# Altium schematic symbol library KLORlib.SchLib: 11 symbols
Pins are listed as number, name and electrical type; pins without a type are passive.

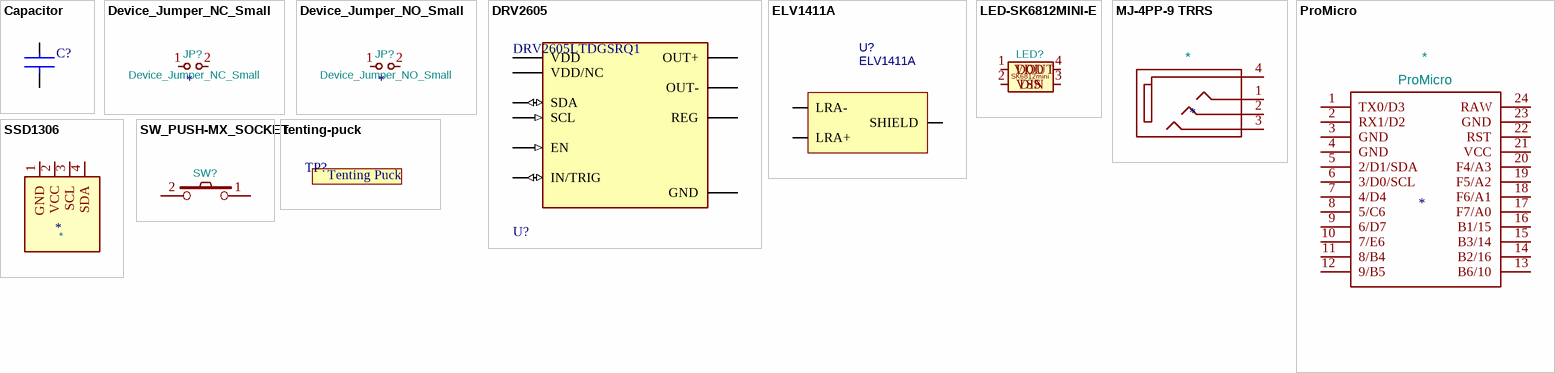
[diagram p0: symbols Capacitor to tenting-puck]

## Capacitor
designator C?
footprint FP-C0402-BB-MFG
footprint FP-C0402-BB-IPC_C
footprint FP-C0402-BB-IPC_B
footprint FP-C0402-BB-IPC_A
pins: 1, 2

## Device_Jumper_NC_Small
designator JP?  value Device_Jumper_NC_Small
ki_fp_filters: SolderJumper*Bridged*
pins: 1, 2

## Device_Jumper_NO_Small
designator JP?  value Device_Jumper_NO_Small
ki_fp_filters: SolderJumper*Open*
footprint SolderJumper-2_P1.3mm_Open_TrianglePad1.0x1.5mm
pins: 1, 2

## DRV2605
designator U?, comment DRV2605LTDGSRQ1
IC MOTOR DRIVER 2V-5.2V 10VSSOP; Manufacturer: TI; Manufacturer Part Number: DRV2605LDGST; Logic Function: AND GATE; Min Supply Voltage: 2V; Max Supply Voltage: 5.2V; Quiescent Current: 500uA; Interface: I2C; Min Operating Temperature: -40°C; RoHS Compliant: Yes; Max Operating Temperature: 105°C; Case/Package: VSSOP; REACH SVHC: No SVHC; Packaging: Cut Tape; Number of Pins: 10; Mount: Surface Mount; Lead Free: Lead Free; Supplier Part Number: C425927; Supplier: LCSC
footprint FP-DGS0010A-MFG
footprint FP-DGS0010A-IPC_A
footprint FP-DGS0010A-IPC_B
footprint FP-DGS0010A-IPC_C
pins: 1 REG, 2 SCL (in), 3 SDA (io), 4 IN/TRIG (io), 5 EN (in), 6 VDD/NC (power), 7 OUT+, 8 GND (power), 9 OUT-, 10 VDD (power)

## ELV1411A
designator U?
11mm x 14mm Rectangular Linear Vibration Motor Model NFP-ELV1411A-A1; Manufacturer: JLCPCB Assembly; Contributor: lcsc; Supplier: LCSC; Supplier Part Number: C9900029336; Manufacturer Part Number: ELV1411A; JLCPCB Part Class: Extended Part; spicePre: U; spiceSymbolName: ELV1411A
footprint SMD-16_ELV1411A
pins: 1,2 LRA-, 3,4 LRA+, 5,6,7,8,9,10,11,12,13,14,15,16 SHIELD

## LED-SK6812MINI-E
designator LED?, comment SK6812MINI-E  (value not drawn)
Conn Shrouded Header (4 Sides) HDR 2 POS 2mm Solder RA Side Entry Thru-Hole Box; Manufacturer: DONGGUAN OCCIDENTAL OPTOELECTRONICS; Category: Uncategorized; Manufacturer Part Number: SK6812MINI-E; Supplier: LCSC; Supplier Part Number: C5149201
footprint SK6812MINI-E
pins: 1 DOUT, 2 VSS, 3 DIN, 4 VDD
text: SK6812mini

## MJ-4PP-9 TRRS
designator *
-20⊥~+70⊥ 3.5mm Headphone Jack 235⊥ 30V 500mA Plugin Audio Connectors (Headphones) ROHS; Manufacturer: XKB Connectivity; Manufacturer Part Number: PJ-320A; Supplier: LCSC; Supplier Part Number: C22459514; Category: Uncategorized; JLCPCB Part #: C22459514
footprint MJ-4PP-9
pins: 1, 2, 3, 4

## ProMicro
designator *  value ProMicro
Footprint: KLOR:ProMicro
footprint ProMicro
pins: 1 TX0/D3, 2 RX1/D2, 3 GND, 4 GND, 5 2/D1/SDA, 6 3/D0/SCL, 7 4/D4, 8 5/C6, 9 6/D7, 10 7/E6, 11 8/B4, 12 9/B5, 13 B6/10, 14 B2/16, 15 B3/14, 16 B1/15, 17 F7/A0, 18 F6/A1, 19 F5/A2, 20 F4/A3, 21 VCC, 22 RST, 23 GND, 24 RAW

## SSD1306
designator *
Manufacturer: HS; Manufacturer Part Number: HS96L03W2C03; Supplier: LCSC; Category: Uncategorized; JLCPCB Part #: C5248080; Supplier Part Number: C5248080
footprint SSD1306_128x64OLED
pins: 1 GND, 2 VCC, 3 SCL, 4 SDA

## SW_PUSH-MX_SOCKET
designator SW?, comment SW_PUSH-MX  (value not drawn)
Manufacturer: HanElectricity; Manufacturer Part Number: CPG151101S11-16; Supplier: LCSC; Category: Uncategorized; Supplier Part Number: C41430893
footprint CHERRY-CPG151101S11
pins: 1, 2

## tenting-puck
designator TP?  (value not drawn)
footprint SplitkbTentingPuckWithoutCenterHole
text: Tenting Puck